# EAGLE library part FM25W256-G (library inode)
FM25W256-G (SOIC8) 256-Kbit (32 K × 8) Serial (SPI) F-RAM http://www.cypress.com/?mpn=FM25W256-G http://www.cypress.com/?docID=47764
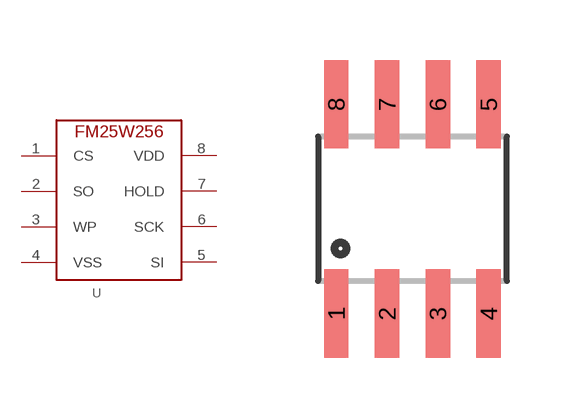
[diagram p4: symbol with the pads of SOIC8; footprint SOIC8]

Designator prefix -

## FM25W256-G  [SOIC8]
1  CS
2  SO
3  WP
4  VSS
5  SI
6  SCK
7  HOLD
8  VDD

## Footprint SOIC8 (pad centres in mm)
SOIC8 Standard package
smd 0.61 x 2.21: 1 -1.905,-2.616; 2 -0.635,-2.616; 3 0.635,-2.616; 4 1.905,-2.616; 5 1.905,2.616; 6 0.635,2.616; 7 -0.635,2.616; 8 -1.905,2.616